# Altium schematic symbol library FreeScale.SchLib: 1 symbol
Pins are listed as number, name and electrical type; pins without a type are passive.

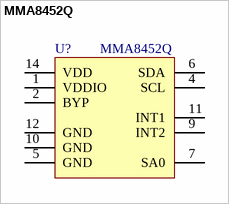
[diagram p0: symbol MMA8452Q]

## MMA8452Q
designator U?
FREESCALE SEMICONDUCTOR - MMA8452QT - ACCELEROMETER, 12/8BIT, 3AXIS, 16QFN; Catalog: Farnell; Catalog nuber: 1842360; Price: 0.63; Value: MMA8452QT
footprint QFN 16 pins 3x3
pins: 1 VDDIO, 2 BYP, 3 NC hidden, 4 SCL, 5 GND, 6 SDA, 7 SA0, 8 NC hidden, 9 INT2, 10 GND, 11 INT1, 12 GND, 13 NC hidden, 14 VDD, 15 NC hidden, 16 NC hidden